# Altium footprint library BGA_Sq_127P.PcbLib: 89 footprints (part 12 of 20)
Each footprint in its own frame and in the unit in brackets; x right, y up, seen from the top. Pads: shape width x height; smd on the part's side, far side on the other; paste and mask are expansions set on the pad; w line width, h text height; cw(c..) or ccw(c..) is an arc to the next point about the centre after c.
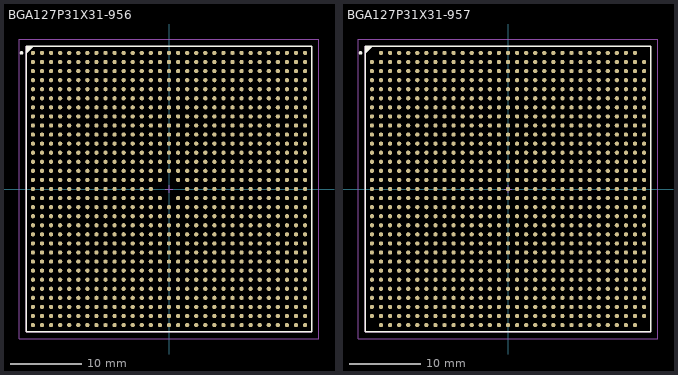
[diagram p11: the footprints below, top view; thin cyan lines are the x and y axes]

## BGA127P31X31-956 [mm] "BGA, 956-Leads, Body 40x40mm, Pitch 1.27mm"
height 3.5
pads (956):
  round 0.6 smd: A1(-19.05,19.05) A2(-17.78,19.05) A3(-16.51,19.05) A4(-15.24,19.05) A5(-13.97,19.05) A6(-12.7,19.05) A7(-11.43,19.05) A8(-10.16,19.05) A9(-8.89,19.05) A10(-7.62,19.05) A11(-6.35,19.05) A12(-5.08,19.05) A13(-3.81,19.05) A14(-2.54,19.05) A15(-1.27,19.05) A16(0,19.05) A17(1.27,19.05) A18(2.54,19.05) A19(3.81,19.05) A20(5.08,19.05) A21(6.35,19.05) A22(7.62,19.05) A23(8.89,19.05) A24(10.16,19.05) A25(11.43,19.05) A26(12.7,19.05) A27(13.97,19.05) A28(15.24,19.05) A29(16.51,19.05) A30(17.78,19.05) A31(19.05,19.05) AA1(-19.05,-6.35) AA2(-17.78,-6.35) AA3(-16.51,-6.35) AA4(-15.24,-6.35) AA5(-13.97,-6.35) AA6(-12.7,-6.35) AA7(-11.43,-6.35) AA8(-10.16,-6.35) AA9(-8.89,-6.35) AA10(-7.62,-6.35) AA11(-6.35,-6.35) AA12(-5.08,-6.35) AA13(-3.81,-6.35) AA14(-2.54,-6.35) AA15(-1.27,-6.35) AA16(0,-6.35) AA17(1.27,-6.35) AA18(2.54,-6.35) AA19(3.81,-6.35) AA20(5.08,-6.35) AA21(6.35,-6.35) AA22(7.62,-6.35) AA23(8.89,-6.35) AA24(10.16,-6.35) AA25(11.43,-6.35) AA26(12.7,-6.35) AA27(13.97,-6.35) AA28(15.24,-6.35) AA29(16.51,-6.35) AA30(17.78,-6.35) AA31(19.05,-6.35) AB1(-19.05,-7.62) AB2(-17.78,-7.62) AB3(-16.51,-7.62) AB4(-15.24,-7.62) AB5(-13.97,-7.62) AB6(-12.7,-7.62) AB7(-11.43,-7.62) AB8(-10.16,-7.62) AB9(-8.89,-7.62) AB10(-7.62,-7.62) AB11(-6.35,-7.62) AB12(-5.08,-7.62) AB13(-3.81,-7.62) AB14(-2.54,-7.62) AB15(-1.27,-7.62) AB16(0,-7.62) AB17(1.27,-7.62) AB18(2.54,-7.62) AB19(3.81,-7.62) AB20(5.08,-7.62) AB21(6.35,-7.62) AB22(7.62,-7.62) AB23(8.89,-7.62) AB24(10.16,-7.62) AB25(11.43,-7.62) AB26(12.7,-7.62) AB27(13.97,-7.62) AB28(15.24,-7.62) AB29(16.51,-7.62) AB30(17.78,-7.62) AB31(19.05,-7.62) AC1(-19.05,-8.89) AC2(-17.78,-8.89) AC3(-16.51,-8.89) AC4(-15.24,-8.89) AC5(-13.97,-8.89) AC6(-12.7,-8.89) AC7(-11.43,-8.89) AC8(-10.16,-8.89) AC9(-8.89,-8.89) AC10(-7.62,-8.89) AC11(-6.35,-8.89) AC12(-5.08,-8.89) AC13(-3.81,-8.89) AC14(-2.54,-8.89) AC15(-1.27,-8.89) AC16(0,-8.89) AC17(1.27,-8.89) AC18(2.54,-8.89) AC19(3.81,-8.89) AC20(5.08,-8.89) AC21(6.35,-8.89) AC22(7.62,-8.89) AC23(8.89,-8.89) AC24(10.16,-8.89) AC25(11.43,-8.89) AC26(12.7,-8.89) AC27(13.97,-8.89) AC28(15.24,-8.89) AC29(16.51,-8.89) AC30(17.78,-8.89) AC31(19.05,-8.89) AD1(-19.05,-10.16) AD2(-17.78,-10.16) AD3(-16.51,-10.16) AD4(-15.24,-10.16) AD5(-13.97,-10.16) AD6(-12.7,-10.16) AD7(-11.43,-10.16) AD8(-10.16,-10.16) AD9(-8.89,-10.16) AD10(-7.62,-10.16) AD11(-6.35,-10.16) AD12(-5.08,-10.16) AD13(-3.81,-10.16) AD14(-2.54,-10.16) AD15(-1.27,-10.16) AD16(0,-10.16) AD17(1.27,-10.16) AD18(2.54,-10.16) AD19(3.81,-10.16) AD20(5.08,-10.16) AD21(6.35,-10.16) AD22(7.62,-10.16) AD23(8.89,-10.16) AD24(10.16,-10.16) AD25(11.43,-10.16) AD26(12.7,-10.16) AD27(13.97,-10.16) AD28(15.24,-10.16) AD29(16.51,-10.16) AD30(17.78,-10.16) AD31(19.05,-10.16) AE1(-19.05,-11.43) AE2(-17.78,-11.43) AE3(-16.51,-11.43) AE4(-15.24,-11.43) AE5(-13.97,-11.43) AE6(-12.7,-11.43) AE7(-11.43,-11.43) AE8(-10.16,-11.43) AE9(-8.89,-11.43) AE10(-7.62,-11.43) AE11(-6.35,-11.43) AE12(-5.08,-11.43) AE13(-3.81,-11.43) AE14(-2.54,-11.43) AE15(-1.27,-11.43) AE16(0,-11.43) AE17(1.27,-11.43) AE18(2.54,-11.43) AE19(3.81,-11.43) AE20(5.08,-11.43) AE21(6.35,-11.43) AE22(7.62,-11.43) AE23(8.89,-11.43) AE24(10.16,-11.43) AE25(11.43,-11.43) AE26(12.7,-11.43) AE27(13.97,-11.43) AE28(15.24,-11.43) AE29(16.51,-11.43) AE30(17.78,-11.43) AE31(19.05,-11.43) AF1(-19.05,-12.7) AF2(-17.78,-12.7) AF3(-16.51,-12.7) AF4(-15.24,-12.7) AF5(-13.97,-12.7) AF6(-12.7,-12.7) AF7(-11.43,-12.7) AF8(-10.16,-12.7) AF9(-8.89,-12.7) AF10(-7.62,-12.7) AF11(-6.35,-12.7) AF12(-5.08,-12.7) AF13(-3.81,-12.7) AF14(-2.54,-12.7) AF15(-1.27,-12.7) AF16(0,-12.7) AF17(1.27,-12.7) AF18(2.54,-12.7) AF19(3.81,-12.7) AF20(5.08,-12.7) AF21(6.35,-12.7) AF22(7.62,-12.7) AF23(8.89,-12.7) AF24(10.16,-12.7) AF25(11.43,-12.7) AF26(12.7,-12.7) AF27(13.97,-12.7) AF28(15.24,-12.7) AF29(16.51,-12.7) AF30(17.78,-12.7) AF31(19.05,-12.7) AG1(-19.05,-13.97) AG2(-17.78,-13.97) AG3(-16.51,-13.97) AG4(-15.24,-13.97) AG5(-13.97,-13.97) AG6(-12.7,-13.97) AG7(-11.43,-13.97) AG8(-10.16,-13.97) AG9(-8.89,-13.97) AG10(-7.62,-13.97) AG11(-6.35,-13.97) AG12(-5.08,-13.97) AG13(-3.81,-13.97) AG14(-2.54,-13.97) AG15(-1.27,-13.97) AG16(0,-13.97) AG17(1.27,-13.97) AG18(2.54,-13.97) AG19(3.81,-13.97) AG20(5.08,-13.97) AG21(6.35,-13.97) AG22(7.62,-13.97) AG23(8.89,-13.97) AG24(10.16,-13.97) AG25(11.43,-13.97) AG26(12.7,-13.97) AG27(13.97,-13.97) AG28(15.24,-13.97) AG29(16.51,-13.97) AG30(17.78,-13.97) AG31(19.05,-13.97) AH1(-19.05,-15.24) AH2(-17.78,-15.24) AH3(-16.51,-15.24) AH4(-15.24,-15.24) AH5(-13.97,-15.24) AH6(-12.7,-15.24) AH7(-11.43,-15.24) AH8(-10.16,-15.24) AH9(-8.89,-15.24) AH10(-7.62,-15.24) AH11(-6.35,-15.24) AH12(-5.08,-15.24) AH13(-3.81,-15.24) AH14(-2.54,-15.24) AH15(-1.27,-15.24) AH16(0,-15.24) AH17(1.27,-15.24) AH18(2.54,-15.24) AH19(3.81,-15.24) AH20(5.08,-15.24) AH21(6.35,-15.24) AH22(7.62,-15.24) AH23(8.89,-15.24) AH24(10.16,-15.24) AH25(11.43,-15.24) AH26(12.7,-15.24) AH27(13.97,-15.24) AH28(15.24,-15.24) AH29(16.51,-15.24) AH30(17.78,-15.24) AH31(19.05,-15.24) AJ1(-19.05,-16.51) AJ2(-17.78,-16.51) AJ3(-16.51,-16.51) AJ4(-15.24,-16.51) AJ5(-13.97,-16.51) AJ6(-12.7,-16.51) AJ7(-11.43,-16.51) AJ8(-10.16,-16.51) AJ9(-8.89,-16.51) AJ10(-7.62,-16.51) AJ11(-6.35,-16.51) AJ12(-5.08,-16.51) AJ13(-3.81,-16.51) AJ14(-2.54,-16.51) AJ15(-1.27,-16.51) AJ16(0,-16.51) AJ17(1.27,-16.51) AJ18(2.54,-16.51) AJ19(3.81,-16.51) AJ20(5.08,-16.51) AJ21(6.35,-16.51) AJ22(7.62,-16.51) AJ23(8.89,-16.51) AJ24(10.16,-16.51) AJ25(11.43,-16.51) AJ26(12.7,-16.51) AJ27(13.97,-16.51) AJ28(15.24,-16.51) AJ29(16.51,-16.51) AJ30(17.78,-16.51) AJ31(19.05,-16.51) AK1(-19.05,-17.78) AK2(-17.78,-17.78) AK3(-16.51,-17.78) AK4(-15.24,-17.78) AK5(-13.97,-17.78) AK6(-12.7,-17.78) AK7(-11.43,-17.78) AK8(-10.16,-17.78) AK9(-8.89,-17.78) AK10(-7.62,-17.78) AK11(-6.35,-17.78) AK12(-5.08,-17.78) AK13(-3.81,-17.78) AK14(-2.54,-17.78) AK15(-1.27,-17.78) AK16(0,-17.78) AK17(1.27,-17.78) AK18(2.54,-17.78) AK19(3.81,-17.78) AK20(5.08,-17.78) AK21(6.35,-17.78) AK22(7.62,-17.78) AK23(8.89,-17.78) AK24(10.16,-17.78) AK25(11.43,-17.78) AK26(12.7,-17.78) AK27(13.97,-17.78) AK28(15.24,-17.78) AK29(16.51,-17.78) AK30(17.78,-17.78) AK31(19.05,-17.78) AL1(-19.05,-19.05) AL2(-17.78,-19.05) AL3(-16.51,-19.05) AL4(-15.24,-19.05) AL5(-13.97,-19.05) AL6(-12.7,-19.05) AL7(-11.43,-19.05) AL8(-10.16,-19.05) AL9(-8.89,-19.05) AL10(-7.62,-19.05) AL11(-6.35,-19.05) AL12(-5.08,-19.05) AL13(-3.81,-19.05) AL14(-2.54,-19.05) AL15(-1.27,-19.05) AL16(0,-19.05) AL17(1.27,-19.05) AL18(2.54,-19.05) AL19(3.81,-19.05) AL20(5.08,-19.05) AL21(6.35,-19.05) AL22(7.62,-19.05) AL23(8.89,-19.05) AL24(10.16,-19.05) AL25(11.43,-19.05) AL26(12.7,-19.05) AL27(13.97,-19.05) AL28(15.24,-19.05) AL29(16.51,-19.05) AL30(17.78,-19.05) AL31(19.05,-19.05) B1(-19.05,17.78) B2(-17.78,17.78) B3(-16.51,17.78) B4(-15.24,17.78) B5(-13.97,17.78) B6(-12.7,17.78) B7(-11.43,17.78) B8(-10.16,17.78) B9(-8.89,17.78) B10(-7.62,17.78) B11(-6.35,17.78) B12(-5.08,17.78) B13(-3.81,17.78) B14(-2.54,17.78) B15(-1.27,17.78) B16(0,17.78) B17(1.27,17.78) B18(2.54,17.78) B19(3.81,17.78) B20(5.08,17.78) B21(6.35,17.78) B22(7.62,17.78) B23(8.89,17.78) B24(10.16,17.78) B25(11.43,17.78) B26(12.7,17.78) B27(13.97,17.78) B28(15.24,17.78) B29(16.51,17.78) B30(17.78,17.78) B31(19.05,17.78) C1(-19.05,16.51) C2(-17.78,16.51) C3(-16.51,16.51) C4(-15.24,16.51) C5(-13.97,16.51) C6(-12.7,16.51) C7(-11.43,16.51) C8(-10.16,16.51) C9(-8.89,16.51) C10(-7.62,16.51) C11(-6.35,16.51) C12(-5.08,16.51) C13(-3.81,16.51) C14(-2.54,16.51) C15(-1.27,16.51) C16(0,16.51) C17(1.27,16.51) C18(2.54,16.51) C19(3.81,16.51) C20(5.08,16.51) C21(6.35,16.51) C22(7.62,16.51) C23(8.89,16.51) C24(10.16,16.51) C25(11.43,16.51) C26(12.7,16.51) C27(13.97,16.51) C28(15.24,16.51) C29(16.51,16.51) C30(17.78,16.51) C31(19.05,16.51) D1(-19.05,15.24) D2(-17.78,15.24) D3(-16.51,15.24) D4(-15.24,15.24) D5(-13.97,15.24) D6(-12.7,15.24) D7(-11.43,15.24) D8(-10.16,15.24) D9(-8.89,15.24) D10(-7.62,15.24) D11(-6.35,15.24) D12(-5.08,15.24) D13(-3.81,15.24) D14(-2.54,15.24) D15(-1.27,15.24) D16(0,15.24) D17(1.27,15.24) D18(2.54,15.24) D19(3.81,15.24) D20(5.08,15.24) D21(6.35,15.24) D22(7.62,15.24) D23(8.89,15.24) D24(10.16,15.24) D25(11.43,15.24) D26(12.7,15.24) D27(13.97,15.24) D28(15.24,15.24) D29(16.51,15.24) D30(17.78,15.24) D31(19.05,15.24) E1(-19.05,13.97) E2(-17.78,13.97) E3(-16.51,13.97) E4(-15.24,13.97) E5(-13.97,13.97) E6(-12.7,13.97) E7(-11.43,13.97) E8(-10.16,13.97) E9(-8.89,13.97) E10(-7.62,13.97) E11(-6.35,13.97) E12(-5.08,13.97) E13(-3.81,13.97) E14(-2.54,13.97) E15(-1.27,13.97) E16(0,13.97) E17(1.27,13.97) E18(2.54,13.97) E19(3.81,13.97) E20(5.08,13.97) E21(6.35,13.97) E22(7.62,13.97) E23(8.89,13.97) E24(10.16,13.97) E25(11.43,13.97) E26(12.7,13.97) E27(13.97,13.97) E28(15.24,13.97) E29(16.51,13.97) E30(17.78,13.97) E31(19.05,13.97) F1(-19.05,12.7) F2(-17.78,12.7) F3(-16.51,12.7) F4(-15.24,12.7) F5(-13.97,12.7) F6(-12.7,12.7) F7(-11.43,12.7) F8(-10.16,12.7) F9(-8.89,12.7) F10(-7.62,12.7) F11(-6.35,12.7) F12(-5.08,12.7) F13(-3.81,12.7) F14(-2.54,12.7) F15(-1.27,12.7) F16(0,12.7) F17(1.27,12.7) F18(2.54,12.7) F19(3.81,12.7) F20(5.08,12.7) F21(6.35,12.7) F22(7.62,12.7) F23(8.89,12.7) F24(10.16,12.7) F25(11.43,12.7) F26(12.7,12.7) F27(13.97,12.7) F28(15.24,12.7) F29(16.51,12.7) F30(17.78,12.7) F31(19.05,12.7) G1(-19.05,11.43) G2(-17.78,11.43) G3(-16.51,11.43) G4(-15.24,11.43) G5(-13.97,11.43) G6(-12.7,11.43) G7(-11.43,11.43) G8(-10.16,11.43) G9(-8.89,11.43) G10(-7.62,11.43) G11(-6.35,11.43) G12(-5.08,11.43) G13(-3.81,11.43) G14(-2.54,11.43) G15(-1.27,11.43) G16(0,11.43) G17(1.27,11.43) G18(2.54,11.43) G19(3.81,11.43) G20(5.08,11.43) G21(6.35,11.43) G22(7.62,11.43) G23(8.89,11.43) G24(10.16,11.43) G25(11.43,11.43) G26(12.7,11.43) G27(13.97,11.43) G28(15.24,11.43) G29(16.51,11.43) G30(17.78,11.43) G31(19.05,11.43) H1(-19.05,10.16) H2(-17.78,10.16) H3(-16.51,10.16) H4(-15.24,10.16) H5(-13.97,10.16) H6(-12.7,10.16) H7(-11.43,10.16) H8(-10.16,10.16) H9(-8.89,10.16) H10(-7.62,10.16) H11(-6.35,10.16) H12(-5.08,10.16) H13(-3.81,10.16) H14(-2.54,10.16) H15(-1.27,10.16) H16(0,10.16) H17(1.27,10.16) H18(2.54,10.16) H19(3.81,10.16) H20(5.08,10.16) H21(6.35,10.16) H22(7.62,10.16) H23(8.89,10.16) H24(10.16,10.16) H25(11.43,10.16) H26(12.7,10.16) H27(13.97,10.16) H28(15.24,10.16) H29(16.51,10.16) H30(17.78,10.16) H31(19.05,10.16) J1(-19.05,8.89) J2(-17.78,8.89) J3(-16.51,8.89) J4(-15.24,8.89) J5(-13.97,8.89) J6(-12.7,8.89) J7(-11.43,8.89) J8(-10.16,8.89) J9(-8.89,8.89) J10(-7.62,8.89) J11(-6.35,8.89) J12(-5.08,8.89) J13(-3.81,8.89) J14(-2.54,8.89) J15(-1.27,8.89) J16(0,8.89) J17(1.27,8.89) J18(2.54,8.89) J19(3.81,8.89) J20(5.08,8.89) J21(6.35,8.89) J22(7.62,8.89) J23(8.89,8.89) J24(10.16,8.89) J25(11.43,8.89) J26(12.7,8.89) J27(13.97,8.89) J28(15.24,8.89) J29(16.51,8.89) J30(17.78,8.89) J31(19.05,8.89) K1(-19.05,7.62) K2(-17.78,7.62) K3(-16.51,7.62) K4(-15.24,7.62) K5(-13.97,7.62) K6(-12.7,7.62) K7(-11.43,7.62) K8(-10.16,7.62) K9(-8.89,7.62) K10(-7.62,7.62) K11(-6.35,7.62) K12(-5.08,7.62) K13(-3.81,7.62) K14(-2.54,7.62) K15(-1.27,7.62) K16(0,7.62) K17(1.27,7.62) K18(2.54,7.62) K19(3.81,7.62) K20(5.08,7.62) K21(6.35,7.62) K22(7.62,7.62) K23(8.89,7.62) K24(10.16,7.62) K25(11.43,7.62) K26(12.7,7.62) K27(13.97,7.62) K28(15.24,7.62) K29(16.51,7.62) K30(17.78,7.62) K31(19.05,7.62) L1(-19.05,6.35) L2(-17.78,6.35) L3(-16.51,6.35) L4(-15.24,6.35) L5(-13.97,6.35) L6(-12.7,6.35) L7(-11.43,6.35) L8(-10.16,6.35) L9(-8.89,6.35) L10(-7.62,6.35) L11(-6.35,6.35) L12(-5.08,6.35) L13(-3.81,6.35) L14(-2.54,6.35) L15(-1.27,6.35) L16(0,6.35) L17(1.27,6.35) L18(2.54,6.35) L19(3.81,6.35) L20(5.08,6.35) L21(6.35,6.35) L22(7.62,6.35) L23(8.89,6.35) L24(10.16,6.35) L25(11.43,6.35) L26(12.7,6.35) L27(13.97,6.35) L28(15.24,6.35) L29(16.51,6.35) L30(17.78,6.35) L31(19.05,6.35) M1(-19.05,5.08) M2(-17.78,5.08) M3(-16.51,5.08) M4(-15.24,5.08) M5(-13.97,5.08) M6(-12.7,5.08) M7(-11.43,5.08) M8(-10.16,5.08) M9(-8.89,5.08) M10(-7.62,5.08) M11(-6.35,5.08) M12(-5.08,5.08) M13(-3.81,5.08) M14(-2.54,5.08) M15(-1.27,5.08) M16(0,5.08) M17(1.27,5.08) M18(2.54,5.08) M19(3.81,5.08) M20(5.08,5.08) M21(6.35,5.08) M22(7.62,5.08) M23(8.89,5.08) M24(10.16,5.08) M25(11.43,5.08) M26(12.7,5.08) M27(13.97,5.08) M28(15.24,5.08) M29(16.51,5.08) M30(17.78,5.08) M31(19.05,5.08) N1(-19.05,3.81) N2(-17.78,3.81) N3(-16.51,3.81) N4(-15.24,3.81) N5(-13.97,3.81) N6(-12.7,3.81) N7(-11.43,3.81) N8(-10.16,3.81) N9(-8.89,3.81) N10(-7.62,3.81) N11(-6.35,3.81) N12(-5.08,3.81) N13(-3.81,3.81) N14(-2.54,3.81) N15(-1.27,3.81) N16(0,3.81) N17(1.27,3.81) N18(2.54,3.81) N19(3.81,3.81) N20(5.08,3.81) N21(6.35,3.81) N22(7.62,3.81) N23(8.89,3.81) N24(10.16,3.81) N25(11.43,3.81) N26(12.7,3.81) N27(13.97,3.81) N28(15.24,3.81) N29(16.51,3.81) N30(17.78,3.81) N31(19.05,3.81) P1(-19.05,2.54) P2(-17.78,2.54) P3(-16.51,2.54) P4(-15.24,2.54) P5(-13.97,2.54) P6(-12.7,2.54) P7(-11.43,2.54) P8(-10.16,2.54) P9(-8.89,2.54) P10(-7.62,2.54) P11(-6.35,2.54) P12(-5.08,2.54) P13(-3.81,2.54) P14(-2.54,2.54) P15(-1.27,2.54) P16(0,2.54) P17(1.27,2.54) P18(2.54,2.54) P19(3.81,2.54) P20(5.08,2.54) P21(6.35,2.54) P22(7.62,2.54) P23(8.89,2.54) P24(10.16,2.54) P25(11.43,2.54) P26(12.7,2.54) P27(13.97,2.54) P28(15.24,2.54) P29(16.51,2.54) P30(17.78,2.54) P31(19.05,2.54) R1(-19.05,1.27) R2(-17.78,1.27) R3(-16.51,1.27) R4(-15.24,1.27) R5(-13.97,1.27) R6(-12.7,1.27) R7(-11.43,1.27) R8(-10.16,1.27) R9(-8.89,1.27) R10(-7.62,1.27) R11(-6.35,1.27) R12(-5.08,1.27) R13(-3.81,1.27) R14(-2.54,1.27) R15(-1.27,1.27) R17(1.27,1.27) R18(2.54,1.27) R19(3.81,1.27) R20(5.08,1.27) R21(6.35,1.27) R22(7.62,1.27) R23(8.89,1.27) R24(10.16,1.27) R25(11.43,1.27) R26(12.7,1.27) R27(13.97,1.27) R28(15.24,1.27) R29(16.51,1.27) R30(17.78,1.27) R31(19.05,1.27) T1(-19.05,0) T2(-17.78,0) T3(-16.51,0) T4(-15.24,0) T5(-13.97,0) T6(-12.7,0) T7(-11.43,0) T8(-10.16,0) T9(-8.89,0) T10(-7.62,0) T11(-6.35,0) T12(-5.08,0) T13(-3.81,0) T14(-2.54,0) T18(2.54,0) T19(3.81,0) T20(5.08,0) T21(6.35,0) T22(7.62,0) T23(8.89,0) T24(10.16,0) T25(11.43,0) T26(12.7,0) T27(13.97,0) T28(15.24,0) T29(16.51,0) T30(17.78,0) T31(19.05,0) U1(-19.05,-1.27) U2(-17.78,-1.27) U3(-16.51,-1.27) U4(-15.24,-1.27) U5(-13.97,-1.27) U6(-12.7,-1.27) U7(-11.43,-1.27) U8(-10.16,-1.27) U9(-8.89,-1.27) U10(-7.62,-1.27) U11(-6.35,-1.27) U12(-5.08,-1.27) U13(-3.81,-1.27) U14(-2.54,-1.27) U15(-1.27,-1.27) U17(1.27,-1.27) U18(2.54,-1.27) U19(3.81,-1.27) U20(5.08,-1.27) U21(6.35,-1.27) U22(7.62,-1.27) U23(8.89,-1.27) U24(10.16,-1.27) U25(11.43,-1.27) U26(12.7,-1.27) U27(13.97,-1.27) U28(15.24,-1.27) U29(16.51,-1.27) U30(17.78,-1.27) U31(19.05,-1.27) V1(-19.05,-2.54) V2(-17.78,-2.54) V3(-16.51,-2.54) V4(-15.24,-2.54) V5(-13.97,-2.54) V6(-12.7,-2.54) V7(-11.43,-2.54) V8(-10.16,-2.54) V9(-8.89,-2.54) V10(-7.62,-2.54) V11(-6.35,-2.54) V12(-5.08,-2.54) V13(-3.81,-2.54) V14(-2.54,-2.54) V15(-1.27,-2.54) V16(0,-2.54) V17(1.27,-2.54) V18(2.54,-2.54) V19(3.81,-2.54) V20(5.08,-2.54) V21(6.35,-2.54) V22(7.62,-2.54) V23(8.89,-2.54) V24(10.16,-2.54) V25(11.43,-2.54) V26(12.7,-2.54) V27(13.97,-2.54) V28(15.24,-2.54) V29(16.51,-2.54) V30(17.78,-2.54) V31(19.05,-2.54) W1(-19.05,-3.81) W2(-17.78,-3.81) W3(-16.51,-3.81) W4(-15.24,-3.81) W5(-13.97,-3.81) W6(-12.7,-3.81) W7(-11.43,-3.81) W8(-10.16,-3.81) W9(-8.89,-3.81) W10(-7.62,-3.81) W11(-6.35,-3.81) W12(-5.08,-3.81) W13(-3.81,-3.81) W14(-2.54,-3.81) W15(-1.27,-3.81) W16(0,-3.81) W17(1.27,-3.81) W18(2.54,-3.81) W19(3.81,-3.81) W20(5.08,-3.81) W21(6.35,-3.81) W22(7.62,-3.81) W23(8.89,-3.81) W24(10.16,-3.81) W25(11.43,-3.81) W26(12.7,-3.81) W27(13.97,-3.81) W28(15.24,-3.81) W29(16.51,-3.81) W30(17.78,-3.81) W31(19.05,-3.81) Y1(-19.05,-5.08) Y2(-17.78,-5.08) Y3(-16.51,-5.08) Y4(-15.24,-5.08) Y5(-13.97,-5.08) Y6(-12.7,-5.08) Y7(-11.43,-5.08) Y8(-10.16,-5.08) Y9(-8.89,-5.08) Y10(-7.62,-5.08) Y11(-6.35,-5.08) Y12(-5.08,-5.08) Y13(-3.81,-5.08) Y14(-2.54,-5.08) Y15(-1.27,-5.08) Y16(0,-5.08) Y17(1.27,-5.08) Y18(2.54,-5.08) Y19(3.81,-5.08) Y20(5.08,-5.08) Y21(6.35,-5.08) Y22(7.62,-5.08) Y23(8.89,-5.08) Y24(10.16,-5.08) Y25(11.43,-5.08) Y26(12.7,-5.08) Y27(13.97,-5.08) Y28(15.24,-5.08) Y29(16.51,-5.08) Y30(17.78,-5.08) Y31(19.05,-5.08)
Top Overlay:
  circle w0.25: c-20.65,19.05 r0.125
  region: -19.09,20 -20,19.09 -20,20
  lines w0.2: -20,19.09 -19.09,20 ; -20,-20 -20,20 20,20 20,-20 -20,-20
Mechanical 13:
  lines w0.1: -20,-20 -20,20 20,20 20,-20 -20,-20
Mechanical 15:
  lines w0.1: -0.5,0 0.5,0 ; 0,-0.5 0,0.5 ; -21,-21 -21,21 21,21 21,-21 -21,-21
3D body: height 3.5, standoff 0, extent -20,-20 20,20

## BGA127P31X31-957 [mm] "957-Ball Plastic Flip Chip Ball Grid Array (BF957)"
height 3.5
pads (957):
  round 0.6 smd: A2(-17.78,19.05) A3(-16.51,19.05) A4(-15.24,19.05) A5(-13.97,19.05) A6(-12.7,19.05) A7(-11.43,19.05) A8(-10.16,19.05) A9(-8.89,19.05) A10(-7.62,19.05) A11(-6.35,19.05) A12(-5.08,19.05) A13(-3.81,19.05) A14(-2.54,19.05) A15(-1.27,19.05) A16(0,19.05) A17(1.27,19.05) A18(2.54,19.05) A19(3.81,19.05) A20(5.08,19.05) A21(6.35,19.05) A22(7.62,19.05) A23(8.89,19.05) A24(10.16,19.05) A25(11.43,19.05) A26(12.7,19.05) A27(13.97,19.05) A28(15.24,19.05) A29(16.51,19.05) A30(17.78,19.05) AA1(-19.05,-6.35) AA2(-17.78,-6.35) AA3(-16.51,-6.35) AA4(-15.24,-6.35) AA5(-13.97,-6.35) AA6(-12.7,-6.35) AA7(-11.43,-6.35) AA8(-10.16,-6.35) AA9(-8.89,-6.35) AA10(-7.62,-6.35) AA11(-6.35,-6.35) AA12(-5.08,-6.35) AA13(-3.81,-6.35) AA14(-2.54,-6.35) AA15(-1.27,-6.35) AA16(0,-6.35) AA17(1.27,-6.35) AA18(2.54,-6.35) AA19(3.81,-6.35) AA20(5.08,-6.35) AA21(6.35,-6.35) AA22(7.62,-6.35) AA23(8.89,-6.35) AA24(10.16,-6.35) AA25(11.43,-6.35) AA26(12.7,-6.35) AA27(13.97,-6.35) AA28(15.24,-6.35) AA29(16.51,-6.35) AA30(17.78,-6.35) AA31(19.05,-6.35) AB1(-19.05,-7.62) AB2(-17.78,-7.62) AB3(-16.51,-7.62) AB4(-15.24,-7.62) AB5(-13.97,-7.62) AB6(-12.7,-7.62) AB7(-11.43,-7.62) AB8(-10.16,-7.62) AB9(-8.89,-7.62) AB10(-7.62,-7.62) AB11(-6.35,-7.62) AB12(-5.08,-7.62) AB13(-3.81,-7.62) AB14(-2.54,-7.62) AB15(-1.27,-7.62) AB16(0,-7.62) AB17(1.27,-7.62) AB18(2.54,-7.62) AB19(3.81,-7.62) AB20(5.08,-7.62) AB21(6.35,-7.62) AB22(7.62,-7.62) AB23(8.89,-7.62) AB24(10.16,-7.62) AB25(11.43,-7.62) AB26(12.7,-7.62) AB27(13.97,-7.62) AB28(15.24,-7.62) AB29(16.51,-7.62) AB30(17.78,-7.62) AB31(19.05,-7.62) AC1(-19.05,-8.89) AC2(-17.78,-8.89) AC3(-16.51,-8.89) AC4(-15.24,-8.89) AC5(-13.97,-8.89) AC6(-12.7,-8.89) AC7(-11.43,-8.89) AC8(-10.16,-8.89) AC9(-8.89,-8.89) AC10(-7.62,-8.89) AC11(-6.35,-8.89) AC12(-5.08,-8.89) AC13(-3.81,-8.89) AC14(-2.54,-8.89) AC15(-1.27,-8.89) AC16(0,-8.89) AC17(1.27,-8.89) AC18(2.54,-8.89) AC19(3.81,-8.89) AC20(5.08,-8.89) AC21(6.35,-8.89) AC22(7.62,-8.89) AC23(8.89,-8.89) AC24(10.16,-8.89) AC25(11.43,-8.89) AC26(12.7,-8.89) AC27(13.97,-8.89) AC28(15.24,-8.89) AC29(16.51,-8.89) AC30(17.78,-8.89) AC31(19.05,-8.89) AD1(-19.05,-10.16) AD2(-17.78,-10.16) AD3(-16.51,-10.16) AD4(-15.24,-10.16) AD5(-13.97,-10.16) AD6(-12.7,-10.16) AD7(-11.43,-10.16) AD8(-10.16,-10.16) AD9(-8.89,-10.16) AD10(-7.62,-10.16) AD11(-6.35,-10.16) AD12(-5.08,-10.16) AD13(-3.81,-10.16) AD14(-2.54,-10.16) AD15(-1.27,-10.16) AD16(0,-10.16) AD17(1.27,-10.16) AD18(2.54,-10.16) AD19(3.81,-10.16) AD20(5.08,-10.16) AD21(6.35,-10.16) AD22(7.62,-10.16) AD23(8.89,-10.16) AD24(10.16,-10.16) AD25(11.43,-10.16) AD26(12.7,-10.16) AD27(13.97,-10.16) AD28(15.24,-10.16) AD29(16.51,-10.16) AD30(17.78,-10.16) AD31(19.05,-10.16) AE1(-19.05,-11.43) AE2(-17.78,-11.43) AE3(-16.51,-11.43) AE4(-15.24,-11.43) AE5(-13.97,-11.43) AE6(-12.7,-11.43) AE7(-11.43,-11.43) AE8(-10.16,-11.43) AE9(-8.89,-11.43) AE10(-7.62,-11.43) AE11(-6.35,-11.43) AE12(-5.08,-11.43) AE13(-3.81,-11.43) AE14(-2.54,-11.43) AE15(-1.27,-11.43) AE16(0,-11.43) AE17(1.27,-11.43) AE18(2.54,-11.43) AE19(3.81,-11.43) AE20(5.08,-11.43) AE21(6.35,-11.43) AE22(7.62,-11.43) AE23(8.89,-11.43) AE24(10.16,-11.43) AE25(11.43,-11.43) AE26(12.7,-11.43) AE27(13.97,-11.43) AE28(15.24,-11.43) AE29(16.51,-11.43) AE30(17.78,-11.43) AE31(19.05,-11.43) AF1(-19.05,-12.7) AF2(-17.78,-12.7) AF3(-16.51,-12.7) AF4(-15.24,-12.7) AF5(-13.97,-12.7) AF6(-12.7,-12.7) AF7(-11.43,-12.7) AF8(-10.16,-12.7) AF9(-8.89,-12.7) AF10(-7.62,-12.7) AF11(-6.35,-12.7) AF12(-5.08,-12.7) AF13(-3.81,-12.7) AF14(-2.54,-12.7) AF15(-1.27,-12.7) AF16(0,-12.7) AF17(1.27,-12.7) AF18(2.54,-12.7) AF19(3.81,-12.7) AF20(5.08,-12.7) AF21(6.35,-12.7) AF22(7.62,-12.7) AF23(8.89,-12.7) AF24(10.16,-12.7) AF25(11.43,-12.7) AF26(12.7,-12.7) AF27(13.97,-12.7) AF28(15.24,-12.7) AF29(16.51,-12.7) AF30(17.78,-12.7) AF31(19.05,-12.7) AG1(-19.05,-13.97) AG2(-17.78,-13.97) AG3(-16.51,-13.97) AG4(-15.24,-13.97) AG5(-13.97,-13.97) AG6(-12.7,-13.97) AG7(-11.43,-13.97) AG8(-10.16,-13.97) AG9(-8.89,-13.97) AG10(-7.62,-13.97) AG11(-6.35,-13.97) AG12(-5.08,-13.97) AG13(-3.81,-13.97) AG14(-2.54,-13.97) AG15(-1.27,-13.97) AG16(0,-13.97) AG17(1.27,-13.97) AG18(2.54,-13.97) AG19(3.81,-13.97) AG20(5.08,-13.97) AG21(6.35,-13.97) AG22(7.62,-13.97) AG23(8.89,-13.97) AG24(10.16,-13.97) AG25(11.43,-13.97) AG26(12.7,-13.97) AG27(13.97,-13.97) AG28(15.24,-13.97) AG29(16.51,-13.97) AG30(17.78,-13.97) AG31(19.05,-13.97) AH1(-19.05,-15.24) AH2(-17.78,-15.24) AH3(-16.51,-15.24) AH4(-15.24,-15.24) AH5(-13.97,-15.24) AH6(-12.7,-15.24) AH7(-11.43,-15.24) AH8(-10.16,-15.24) AH9(-8.89,-15.24) AH10(-7.62,-15.24) AH11(-6.35,-15.24) AH12(-5.08,-15.24) AH13(-3.81,-15.24) AH14(-2.54,-15.24) AH15(-1.27,-15.24) AH16(0,-15.24) AH17(1.27,-15.24) AH18(2.54,-15.24) AH19(3.81,-15.24) AH20(5.08,-15.24) AH21(6.35,-15.24) AH22(7.62,-15.24) AH23(8.89,-15.24) AH24(10.16,-15.24) AH25(11.43,-15.24) AH26(12.7,-15.24) AH27(13.97,-15.24) AH28(15.24,-15.24) AH29(16.51,-15.24) AH30(17.78,-15.24) AH31(19.05,-15.24) AJ1(-19.05,-16.51) AJ2(-17.78,-16.51) AJ3(-16.51,-16.51) AJ4(-15.24,-16.51) AJ5(-13.97,-16.51) AJ6(-12.7,-16.51) AJ7(-11.43,-16.51) AJ8(-10.16,-16.51) AJ9(-8.89,-16.51) AJ10(-7.62,-16.51) AJ11(-6.35,-16.51) AJ12(-5.08,-16.51) AJ13(-3.81,-16.51) AJ14(-2.54,-16.51) AJ15(-1.27,-16.51) AJ16(0,-16.51) AJ17(1.27,-16.51) AJ18(2.54,-16.51) AJ19(3.81,-16.51) AJ20(5.08,-16.51) AJ21(6.35,-16.51) AJ22(7.62,-16.51) AJ23(8.89,-16.51) AJ24(10.16,-16.51) AJ25(11.43,-16.51) AJ26(12.7,-16.51) AJ27(13.97,-16.51) AJ28(15.24,-16.51) AJ29(16.51,-16.51) AJ30(17.78,-16.51) AJ31(19.05,-16.51) AK1(-19.05,-17.78) AK2(-17.78,-17.78) AK3(-16.51,-17.78) AK4(-15.24,-17.78) AK5(-13.97,-17.78) AK6(-12.7,-17.78) AK7(-11.43,-17.78) AK8(-10.16,-17.78) AK9(-8.89,-17.78) AK10(-7.62,-17.78) AK11(-6.35,-17.78) AK12(-5.08,-17.78) AK13(-3.81,-17.78) AK14(-2.54,-17.78) AK15(-1.27,-17.78) AK16(0,-17.78) AK17(1.27,-17.78) AK18(2.54,-17.78) AK19(3.81,-17.78) AK20(5.08,-17.78) AK21(6.35,-17.78) AK22(7.62,-17.78) AK23(8.89,-17.78) AK24(10.16,-17.78) AK25(11.43,-17.78) AK26(12.7,-17.78) AK27(13.97,-17.78) AK28(15.24,-17.78) AK29(16.51,-17.78) AK30(17.78,-17.78) AK31(19.05,-17.78) AL2(-17.78,-19.05) AL3(-16.51,-19.05) AL4(-15.24,-19.05) AL5(-13.97,-19.05) AL6(-12.7,-19.05) AL7(-11.43,-19.05) AL8(-10.16,-19.05) AL9(-8.89,-19.05) AL10(-7.62,-19.05) AL11(-6.35,-19.05) AL12(-5.08,-19.05) AL13(-3.81,-19.05) AL14(-2.54,-19.05) AL15(-1.27,-19.05) AL16(0,-19.05) AL17(1.27,-19.05) AL18(2.54,-19.05) AL19(3.81,-19.05) AL20(5.08,-19.05) AL21(6.35,-19.05) AL22(7.62,-19.05) AL23(8.89,-19.05) AL24(10.16,-19.05) AL25(11.43,-19.05) AL26(12.7,-19.05) AL27(13.97,-19.05) AL28(15.24,-19.05) AL29(16.51,-19.05) AL30(17.78,-19.05) B1(-19.05,17.78) B2(-17.78,17.78) B3(-16.51,17.78) B4(-15.24,17.78) B5(-13.97,17.78) B6(-12.7,17.78) B7(-11.43,17.78) B8(-10.16,17.78) B9(-8.89,17.78) B10(-7.62,17.78) B11(-6.35,17.78) B12(-5.08,17.78) B13(-3.81,17.78) B14(-2.54,17.78) B15(-1.27,17.78) B16(0,17.78) B17(1.27,17.78) B18(2.54,17.78) B19(3.81,17.78) B20(5.08,17.78) B21(6.35,17.78) B22(7.62,17.78) B23(8.89,17.78) B24(10.16,17.78) B25(11.43,17.78) B26(12.7,17.78) B27(13.97,17.78) B28(15.24,17.78) B29(16.51,17.78) B30(17.78,17.78) B31(19.05,17.78) C1(-19.05,16.51) C2(-17.78,16.51) C3(-16.51,16.51) C4(-15.24,16.51) C5(-13.97,16.51) C6(-12.7,16.51) C7(-11.43,16.51) C8(-10.16,16.51) C9(-8.89,16.51) C10(-7.62,16.51) C11(-6.35,16.51) C12(-5.08,16.51) C13(-3.81,16.51) C14(-2.54,16.51) C15(-1.27,16.51) C16(0,16.51) C17(1.27,16.51) C18(2.54,16.51) C19(3.81,16.51) C20(5.08,16.51) C21(6.35,16.51) C22(7.62,16.51) C23(8.89,16.51) C24(10.16,16.51) C25(11.43,16.51) C26(12.7,16.51) C27(13.97,16.51) C28(15.24,16.51) C29(16.51,16.51) C30(17.78,16.51) C31(19.05,16.51) D1(-19.05,15.24) D2(-17.78,15.24) D3(-16.51,15.24) D4(-15.24,15.24) D5(-13.97,15.24) D6(-12.7,15.24) D7(-11.43,15.24) D8(-10.16,15.24) D9(-8.89,15.24) D10(-7.62,15.24) D11(-6.35,15.24) D12(-5.08,15.24) D13(-3.81,15.24) D14(-2.54,15.24) D15(-1.27,15.24) D16(0,15.24) D17(1.27,15.24) D18(2.54,15.24) D19(3.81,15.24) D20(5.08,15.24) D21(6.35,15.24) D22(7.62,15.24) D23(8.89,15.24) D24(10.16,15.24) D25(11.43,15.24) D26(12.7,15.24) D27(13.97,15.24) D28(15.24,15.24) D29(16.51,15.24) D30(17.78,15.24) D31(19.05,15.24) E1(-19.05,13.97) E2(-17.78,13.97) E3(-16.51,13.97) E4(-15.24,13.97) E5(-13.97,13.97) E6(-12.7,13.97) E7(-11.43,13.97) E8(-10.16,13.97) E9(-8.89,13.97) E10(-7.62,13.97) E11(-6.35,13.97) E12(-5.08,13.97) E13(-3.81,13.97) E14(-2.54,13.97) E15(-1.27,13.97) E16(0,13.97) E17(1.27,13.97) E18(2.54,13.97) E19(3.81,13.97) E20(5.08,13.97) E21(6.35,13.97) E22(7.62,13.97) E23(8.89,13.97) E24(10.16,13.97) E25(11.43,13.97) E26(12.7,13.97) E27(13.97,13.97) E28(15.24,13.97) E29(16.51,13.97) E30(17.78,13.97) E31(19.05,13.97) F1(-19.05,12.7) F2(-17.78,12.7) F3(-16.51,12.7) F4(-15.24,12.7) F5(-13.97,12.7) F6(-12.7,12.7) F7(-11.43,12.7) F8(-10.16,12.7) F9(-8.89,12.7) F10(-7.62,12.7) F11(-6.35,12.7) F12(-5.08,12.7) F13(-3.81,12.7) F14(-2.54,12.7) F15(-1.27,12.7) F16(0,12.7) F17(1.27,12.7) F18(2.54,12.7) F19(3.81,12.7) F20(5.08,12.7) F21(6.35,12.7) F22(7.62,12.7) F23(8.89,12.7) F24(10.16,12.7) F25(11.43,12.7) F26(12.7,12.7) F27(13.97,12.7) F28(15.24,12.7) F29(16.51,12.7) F30(17.78,12.7) F31(19.05,12.7) G1(-19.05,11.43) G2(-17.78,11.43) G3(-16.51,11.43) G4(-15.24,11.43) G5(-13.97,11.43) G6(-12.7,11.43) G7(-11.43,11.43) G8(-10.16,11.43) G9(-8.89,11.43) G10(-7.62,11.43) G11(-6.35,11.43) G12(-5.08,11.43) G13(-3.81,11.43) G14(-2.54,11.43) G15(-1.27,11.43) G16(0,11.43) G17(1.27,11.43) G18(2.54,11.43) G19(3.81,11.43) G20(5.08,11.43) G21(6.35,11.43) G22(7.62,11.43) G23(8.89,11.43) G24(10.16,11.43) G25(11.43,11.43) G26(12.7,11.43) G27(13.97,11.43) G28(15.24,11.43) G29(16.51,11.43) G30(17.78,11.43) G31(19.05,11.43) H1(-19.05,10.16) H2(-17.78,10.16) H3(-16.51,10.16) H4(-15.24,10.16) H5(-13.97,10.16) H6(-12.7,10.16) H7(-11.43,10.16) H8(-10.16,10.16) H9(-8.89,10.16) H10(-7.62,10.16) H11(-6.35,10.16) H12(-5.08,10.16) H13(-3.81,10.16) H14(-2.54,10.16) H15(-1.27,10.16) H16(0,10.16) H17(1.27,10.16) H18(2.54,10.16) H19(3.81,10.16) H20(5.08,10.16) H21(6.35,10.16) H22(7.62,10.16) H23(8.89,10.16) H24(10.16,10.16) H25(11.43,10.16) H26(12.7,10.16) H27(13.97,10.16) H28(15.24,10.16) H29(16.51,10.16) H30(17.78,10.16) H31(19.05,10.16) J1(-19.05,8.89) J2(-17.78,8.89) J3(-16.51,8.89) J4(-15.24,8.89) J5(-13.97,8.89) J6(-12.7,8.89) J7(-11.43,8.89) J8(-10.16,8.89) J9(-8.89,8.89) J10(-7.62,8.89) J11(-6.35,8.89) J12(-5.08,8.89) J13(-3.81,8.89) J14(-2.54,8.89) J15(-1.27,8.89) J16(0,8.89) J17(1.27,8.89) J18(2.54,8.89) J19(3.81,8.89) J20(5.08,8.89) J21(6.35,8.89) J22(7.62,8.89) J23(8.89,8.89) J24(10.16,8.89) J25(11.43,8.89) J26(12.7,8.89) J27(13.97,8.89) J28(15.24,8.89) J29(16.51,8.89) J30(17.78,8.89) J31(19.05,8.89) K1(-19.05,7.62) K2(-17.78,7.62) K3(-16.51,7.62) K4(-15.24,7.62) K5(-13.97,7.62) K6(-12.7,7.62) K7(-11.43,7.62) K8(-10.16,7.62) K9(-8.89,7.62) K10(-7.62,7.62) K11(-6.35,7.62) K12(-5.08,7.62) K13(-3.81,7.62) K14(-2.54,7.62) K15(-1.27,7.62) K16(0,7.62) K17(1.27,7.62) K18(2.54,7.62) K19(3.81,7.62) K20(5.08,7.62) K21(6.35,7.62) K22(7.62,7.62) K23(8.89,7.62) K24(10.16,7.62) K25(11.43,7.62) K26(12.7,7.62) K27(13.97,7.62) K28(15.24,7.62) K29(16.51,7.62) K30(17.78,7.62) K31(19.05,7.62) L1(-19.05,6.35) L2(-17.78,6.35) L3(-16.51,6.35) L4(-15.24,6.35) L5(-13.97,6.35) L6(-12.7,6.35) L7(-11.43,6.35) L8(-10.16,6.35) L9(-8.89,6.35) L10(-7.62,6.35) L11(-6.35,6.35) L12(-5.08,6.35) L13(-3.81,6.35) L14(-2.54,6.35) L15(-1.27,6.35) L16(0,6.35) L17(1.27,6.35) L18(2.54,6.35) L19(3.81,6.35) L20(5.08,6.35) L21(6.35,6.35) L22(7.62,6.35) L23(8.89,6.35) L24(10.16,6.35) L25(11.43,6.35) L26(12.7,6.35) L27(13.97,6.35) L28(15.24,6.35) L29(16.51,6.35) L30(17.78,6.35) L31(19.05,6.35) M1(-19.05,5.08) M2(-17.78,5.08) M3(-16.51,5.08) M4(-15.24,5.08) M5(-13.97,5.08) M6(-12.7,5.08) M7(-11.43,5.08) M8(-10.16,5.08) M9(-8.89,5.08) M10(-7.62,5.08) M11(-6.35,5.08) M12(-5.08,5.08) M13(-3.81,5.08) M14(-2.54,5.08) M15(-1.27,5.08) M16(0,5.08) M17(1.27,5.08) M18(2.54,5.08) M19(3.81,5.08) M20(5.08,5.08) M21(6.35,5.08) M22(7.62,5.08) M23(8.89,5.08) M24(10.16,5.08) M25(11.43,5.08) M26(12.7,5.08) M27(13.97,5.08) M28(15.24,5.08) M29(16.51,5.08) M30(17.78,5.08) M31(19.05,5.08) N1(-19.05,3.81) N2(-17.78,3.81) N3(-16.51,3.81) N4(-15.24,3.81) N5(-13.97,3.81) N6(-12.7,3.81) N7(-11.43,3.81) N8(-10.16,3.81) N9(-8.89,3.81) N10(-7.62,3.81) N11(-6.35,3.81) N12(-5.08,3.81) N13(-3.81,3.81) N14(-2.54,3.81) N15(-1.27,3.81) N16(0,3.81) N17(1.27,3.81) N18(2.54,3.81) N19(3.81,3.81) N20(5.08,3.81) N21(6.35,3.81) N22(7.62,3.81) N23(8.89,3.81) N24(10.16,3.81) N25(11.43,3.81) N26(12.7,3.81) N27(13.97,3.81) N28(15.24,3.81) N29(16.51,3.81) N30(17.78,3.81) N31(19.05,3.81) P1(-19.05,2.54) P2(-17.78,2.54) P3(-16.51,2.54) P4(-15.24,2.54) P5(-13.97,2.54) P6(-12.7,2.54) P7(-11.43,2.54) P8(-10.16,2.54) P9(-8.89,2.54) P10(-7.62,2.54) P11(-6.35,2.54) P12(-5.08,2.54) P13(-3.81,2.54) P14(-2.54,2.54) P15(-1.27,2.54) P16(0,2.54) P17(1.27,2.54) P18(2.54,2.54) P19(3.81,2.54) P20(5.08,2.54) P21(6.35,2.54) P22(7.62,2.54) P23(8.89,2.54) P24(10.16,2.54) P25(11.43,2.54) P26(12.7,2.54) P27(13.97,2.54) P28(15.24,2.54) P29(16.51,2.54) P30(17.78,2.54) P31(19.05,2.54) R1(-19.05,1.27) R2(-17.78,1.27) R3(-16.51,1.27) R4(-15.24,1.27) R5(-13.97,1.27) R6(-12.7,1.27) R7(-11.43,1.27) R8(-10.16,1.27) R9(-8.89,1.27) R10(-7.62,1.27) R11(-6.35,1.27) R12(-5.08,1.27) R13(-3.81,1.27) R14(-2.54,1.27) R15(-1.27,1.27) R16(0,1.27) R17(1.27,1.27) R18(2.54,1.27) R19(3.81,1.27) R20(5.08,1.27) R21(6.35,1.27) R22(7.62,1.27) R23(8.89,1.27) R24(10.16,1.27) R25(11.43,1.27) R26(12.7,1.27) R27(13.97,1.27) R28(15.24,1.27) R29(16.51,1.27) R30(17.78,1.27) R31(19.05,1.27) T1(-19.05,0) T2(-17.78,0) T3(-16.51,0) T4(-15.24,0) T5(-13.97,0) T6(-12.7,0) T7(-11.43,0) T8(-10.16,0) T9(-8.89,0) T10(-7.62,0) T11(-6.35,0) T12(-5.08,0) T13(-3.81,0) T14(-2.54,0) T15(-1.27,0) T16(0,0) T17(1.27,0) T18(2.54,0) T19(3.81,0) T20(5.08,0) T21(6.35,0) T22(7.62,0) T23(8.89,0) T24(10.16,0) T25(11.43,0) T26(12.7,0) T27(13.97,0) T28(15.24,0) T29(16.51,0) T30(17.78,0) T31(19.05,0) U1(-19.05,-1.27) U2(-17.78,-1.27) U3(-16.51,-1.27) U4(-15.24,-1.27) U5(-13.97,-1.27) U6(-12.7,-1.27) U7(-11.43,-1.27) U8(-10.16,-1.27) U9(-8.89,-1.27) U10(-7.62,-1.27) U11(-6.35,-1.27) U12(-5.08,-1.27) U13(-3.81,-1.27) U14(-2.54,-1.27) U15(-1.27,-1.27) U16(0,-1.27) U17(1.27,-1.27) U18(2.54,-1.27) U19(3.81,-1.27) U20(5.08,-1.27) U21(6.35,-1.27) U22(7.62,-1.27) U23(8.89,-1.27) U24(10.16,-1.27) U25(11.43,-1.27) U26(12.7,-1.27) U27(13.97,-1.27) U28(15.24,-1.27) U29(16.51,-1.27) U30(17.78,-1.27) U31(19.05,-1.27) V1(-19.05,-2.54) V2(-17.78,-2.54) V3(-16.51,-2.54) V4(-15.24,-2.54) V5(-13.97,-2.54) V6(-12.7,-2.54) V7(-11.43,-2.54) V8(-10.16,-2.54) V9(-8.89,-2.54) V10(-7.62,-2.54) V11(-6.35,-2.54) V12(-5.08,-2.54) V13(-3.81,-2.54) V14(-2.54,-2.54) V15(-1.27,-2.54) V16(0,-2.54) V17(1.27,-2.54) V18(2.54,-2.54) V19(3.81,-2.54) V20(5.08,-2.54) V21(6.35,-2.54) V22(7.62,-2.54) V23(8.89,-2.54) V24(10.16,-2.54) V25(11.43,-2.54) V26(12.7,-2.54) V27(13.97,-2.54) V28(15.24,-2.54) V29(16.51,-2.54) V30(17.78,-2.54) V31(19.05,-2.54) W1(-19.05,-3.81) W2(-17.78,-3.81) W3(-16.51,-3.81) W4(-15.24,-3.81) W5(-13.97,-3.81) W6(-12.7,-3.81) W7(-11.43,-3.81) W8(-10.16,-3.81) W9(-8.89,-3.81) W10(-7.62,-3.81) W11(-6.35,-3.81) W12(-5.08,-3.81) W13(-3.81,-3.81) W14(-2.54,-3.81) W15(-1.27,-3.81) W16(0,-3.81) W17(1.27,-3.81) W18(2.54,-3.81) W19(3.81,-3.81) W20(5.08,-3.81) W21(6.35,-3.81) W22(7.62,-3.81) W23(8.89,-3.81) W24(10.16,-3.81) W25(11.43,-3.81) W26(12.7,-3.81) W27(13.97,-3.81) W28(15.24,-3.81) W29(16.51,-3.81) W30(17.78,-3.81) W31(19.05,-3.81) Y1(-19.05,-5.08) Y2(-17.78,-5.08) Y3(-16.51,-5.08) Y4(-15.24,-5.08) Y5(-13.97,-5.08) Y6(-12.7,-5.08) Y7(-11.43,-5.08) Y8(-10.16,-5.08) Y9(-8.89,-5.08) Y10(-7.62,-5.08) Y11(-6.35,-5.08) Y12(-5.08,-5.08) Y13(-3.81,-5.08) Y14(-2.54,-5.08) Y15(-1.27,-5.08) Y16(0,-5.08) Y17(1.27,-5.08) Y18(2.54,-5.08) Y19(3.81,-5.08) Y20(5.08,-5.08) Y21(6.35,-5.08) Y22(7.62,-5.08) Y23(8.89,-5.08) Y24(10.16,-5.08) Y25(11.43,-5.08) Y26(12.7,-5.08) Y27(13.97,-5.08) Y28(15.24,-5.08) Y29(16.51,-5.08) Y30(17.78,-5.08) Y31(19.05,-5.08)
Top Overlay:
  circle w0.25: c-20.65,19.05 r0.125
  region: -19.09,20 -20,19.09 -20,20
  lines w0.2: -20,19.09 -19.09,20 ; -20,-20 20,-20 20,20 -20,20 -20,-20
Mechanical 13:
  lines w0.1: -20,-20 20,-20 20,20 -20,20 -20,-20
Mechanical 15:
  lines w0.1: -0.5,0 0.5,0 ; 0,-0.5 0,0.5 ; -21,-21 21,-21 21,21 -21,21 -21,-21
3D body: height 3.5, standoff 0, extent -20,-20 20,20